# Altium schematic symbol library LT1161ISWPBF MOSFET Driver.SchLib: 1 symbol
Pins are listed as number, name and electrical type; pins without a type are passive.

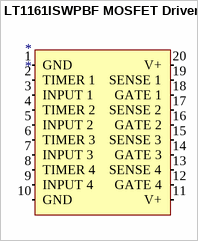
[diagram p0: symbol LT1161ISWPBF MOSFET Driver]

## LT1161ISWPBF MOSFET Driver
designator *
pins: 1 GND (in), 2 TIMER 1 (in), 3 INPUT 1 (in), 4 TIMER 2 (in), 5 INPUT 2 (in), 6 TIMER 3 (in), 7 INPUT 3 (in), 8 TIMER 4 (in), 9 INPUT 4 (in), 10 GND (in), 11 V+ (in), 12 GATE 4 (in), 13 SENSE 4 (in), 14 GATE 3 (in), 15 SENSE 3 (in), 16 GATE 2 (in), 17 SENSE 2 (in), 18 GATE 1 (in), 19 SENSE 1 (in), 20 V+ (in)